# Altium footprint library LaserDiode.PcbLib: 11 footprints
Each footprint in its own frame and in the unit in brackets; x right, y up, seen from the top. Pads: shape width x height; smd on the part's side, far side on the other; paste and mask are expansions set on the pad; w line width, h text height; cw(c..) or ccw(c..) is an arc to the next point about the centre after c.
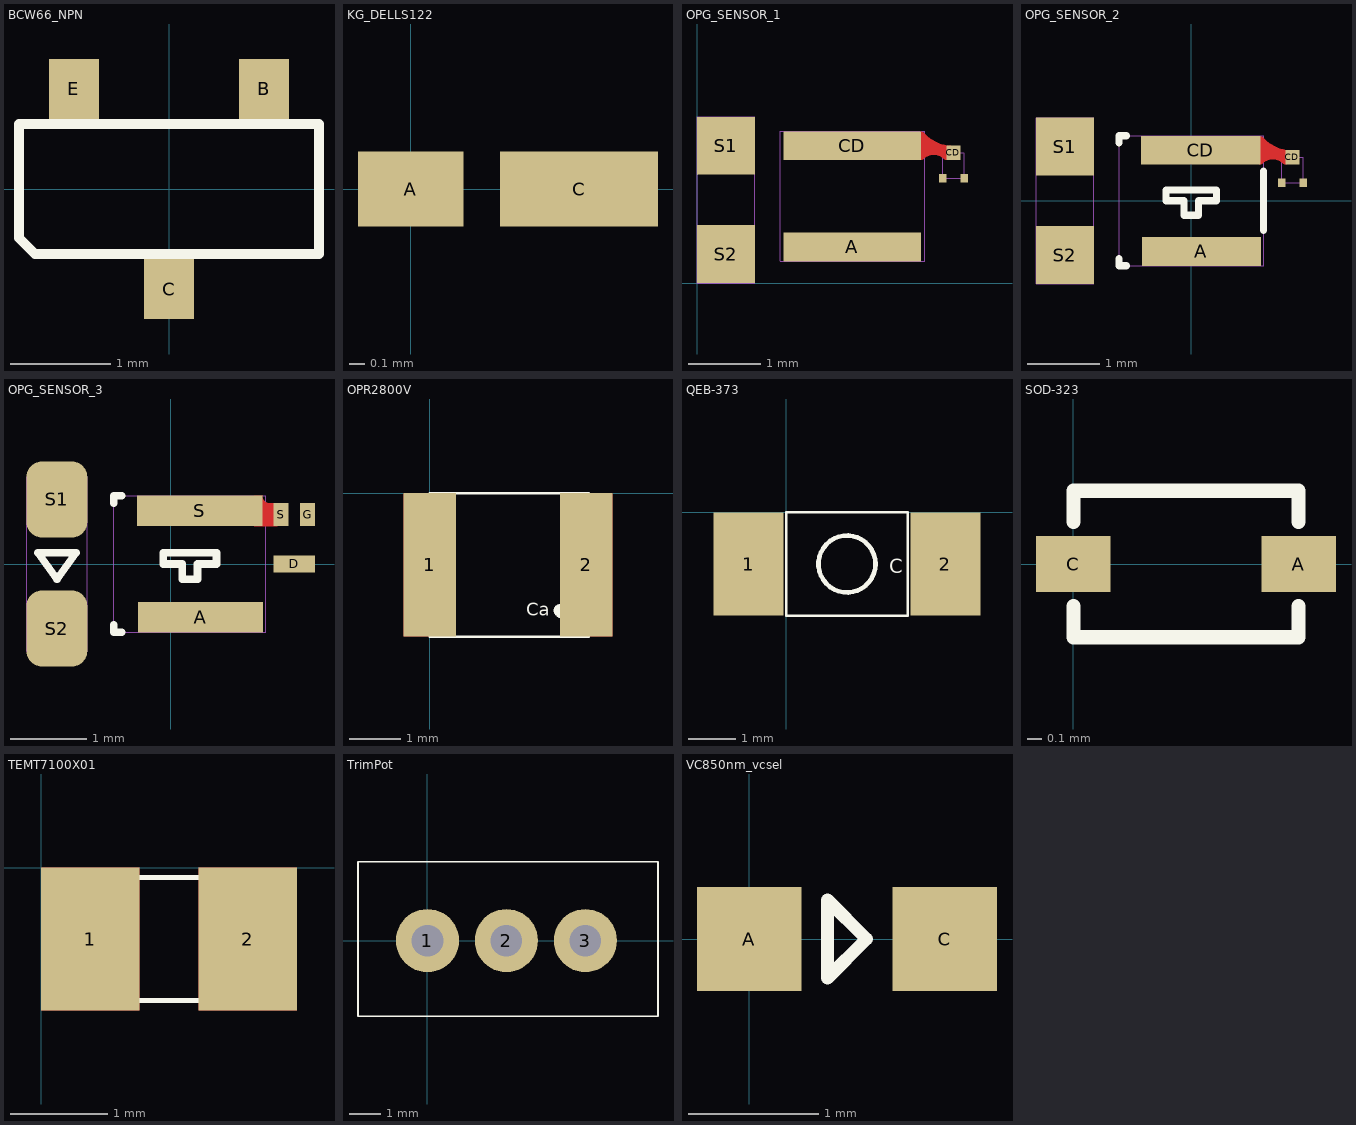
[diagram p0: the footprints below, top view; thin cyan lines are the x and y axes]

## BCW66_NPN [mm] "Nexperia npn bjt transistor, general purpose"
pads (3):
  rect 0.5x0.6 smd: B(0.95,1) C(0,-1) E(-0.95,1)
Top Overlay:
  lines w0.1: -1.5,0.64 -1.5,-0.49 -1.34,-0.65 1.5,-0.65 1.5,0.63 ; -1.5,0.65 1.5,0.65

## KG_DELLS122 [mm] "Osram blue led, 1608 package"
pads (2):
  rect 0.7x0.5 smd: A(0,0)
  rect 1.05x0.5 smd: C(1.12,0)

## OPG_SENSOR_1 [mm] "Custom OPG Sensor v1, with VCSEL, PD and n-MOSFET"
pads (7):
  rect 1.9x0.4 smd: A(2.15,0.5) CD(2.15,1.9)
  rect 0.2x0.2 smd: CD(3.55,1.8)
  rect 0.1x0.12 smd: G(3.4,1.45) S(3.7,1.45)
  rect 0.8x0.8 smd: S1(0.4,1.9) S2(0.4,0.4)
Top Layer:
  region: 3.05,2.05 3.15,2.05 3.35,1.85 3.3,1.8 3.05,1.8
  lines w0.1: 3.1,2.05 ccw(c3.55,2.45) 3.5,1.85 ; 3.105,1.755 cw(c3.275,1.575) 3.45,1.75
Mechanical 1:
  lines w0.01: 0,0 0,2.3 0.8,2.3 0.8,0 0,0 ; 1.15,0.3 3.15,0.3 3.15,2.1 1.15,2.1 1.15,0.3 ; 3.4,1.45 3.7,1.45 3.7,1.8 3.4,1.8 3.4,1.45

## OPG_SENSOR_2 [mm] "Similar footprint as *_1, but with smaller PD pads"
pads (7):
  rect 1.65x0.4 smd: A(0.14,-0.7) CD(0.13,0.7)
  rect 0.2x0.2 smd: CD(1.4,0.6)
  rect 0.1x0.12 smd: G(1.25,0.25) S(1.55,0.25)
  rect 0.8x0.8 smd: S1(-1.75,0.75) S2(-1.75,-0.75)
Top Layer:
  region: 0.9,0.85 1,0.85 1.2,0.65 1.15,0.6 0.9,0.6
  lines w0.1: 0.95,0.85 ccw(c1.4,1.25) 1.35,0.65 ; 0.955,0.555 cw(c1.125,0.375) 1.3,0.55
Top Overlay:
  lines w0.1: -1,-0.8 -1,-0.9 -0.9,-0.9 ; -1,0.8 -1,0.9 -0.9,0.9 ; 1,-0.41 1,0.41 ; -0.35,0 -0.1,0 -0.1,-0.2 0.1,-0.2 0.1,0 0.35,0 0.35,0.15 -0.35,0.15 -0.35,0
Mechanical 1:
  lines w0.01: -2.15,-1.15 -2.15,1.15 -1.35,1.15 -1.35,-1.15 -2.15,-1.15 ; -1,-0.9 1,-0.9 1,0.9 -1,0.9 -1,-0.9 ; 1.25,0.25 1.55,0.25 1.55,0.6 1.25,0.6 1.25,0.25
3D body: height 0.36, standoff 0, extent 1.2,0.2 1.6,0.8
3D body: height 0.6, standoff 0, extent -2.15,-0.6 -1.35,0.6
3D body: height 0.1, standoff 0, extent -2.15,-0.8 -1.35,0.8
3D body "SFH_2704_20190402_geometry.STEP": height 0.6, standoff 0, extent -1,-0.9 1,0.9

## OPG_SENSOR_3 [mm]
pads (7):
  rect 1.65x0.4 smd paste-0.3 mask-0.1: A(0.39,-0.7) S(0.38,0.7)
  rect 0.55x0.22 smd paste-0.05 mask-0.05: D(1.625,0)
  rect 0.2x0.3 smd paste-0.025 mask+0.05: G(1.8,0.65) S(1.45,0.65)
  rrect50% 0.8x1 smd paste-0.1 mask-0.1: S1(-1.5,0.85) S2(-1.5,-0.85)
Top Layer:
  region: 1.4,0.8 1.3,0.8 1.28,0.802 1.244,0.817 1.217,0.844 1.202,0.88 1.2,0.9 1.1,0.9 1.1,0.5 1.4,0.5
Top Overlay:
  lines w0.1: -0.75,-0.8 -0.75,-0.9 -0.65,-0.9 ; -0.75,0.8 -0.75,0.9 -0.65,0.9 ; -1.75,0.15 -1.5,-0.2 -1.25,0.15 -1.75,0.15 ; -0.1,0 -0.1,0.15 0.6,0.15 0.6,0 0.35,0 0.35,-0.2 0.15,-0.2 0.15,0 -0.1,0
Top Paste:
  rectangle: -1.8,-1.25 -1.2,-0.45
  rectangle: -1.8,0.45 -1.2,1.25
  rectangle: 0.5,0.55 1.15,0.85
  rectangle: -0.35,0.55 0.3,0.85
  rectangle: 0.5,-0.85 1.15,-0.55
  rectangle: -0.35,-0.85 0.3,-0.55
Top Solder:
  rectangle: -1.95,0.45 -1.05,1.25
  rectangle: -1.95,-1.25 -1.05,-0.45
  rectangle: 1.4,-0.15 1.85,0.15
  rectangle: -0.35,-0.95 1.15,-0.45
  rectangle: -0.35,0.45 1.15,0.95
Mechanical 1:
  lines w0.01: -1.9,-1.15 -1.1,-1.15 -1.1,1.15 -1.9,1.15 -1.9,-1.15 ; -0.75,-0.9 -0.75,0.9 1.25,0.9 1.25,-0.9 -0.75,-0.9
3D body: height 0.48, standoff 0, extent 1.325,-0.15 1.925,0.85
3D body "SFH_2704_20190402_geometry.STEP": height 0.6, standoff 0, extent -0.75,-0.9 1.25,0.9
3D body: height 0.1, standoff 0, extent -1.9,-0.8 -1.1,0.8
3D body: height 0.6, standoff 0, extent -1.9,-0.6 -1.1,0.6

## OPR2800V [mil] "OPR2800V Laser Diode"
height 56
pads (2):
  rect 40x110 all layers, no hole: 1(0,-55) 2(120,-55)
Top Layer:
  rectangle: 100,-110 140,0
  rectangle: -20,-110 20,0
Top Overlay:
  lines w2: 0,-17.2 ccw(c0,0) 17.2,0 ; 0.17,-92.03 cw(c1.1,-108.94) 18,-110 ; 104,-110 cw(c119.82,-108.62) 121.2,-92.8 ; 104.8,-0.8 ccw(c122,-0.8) 122,-18 ; 0,-110 122,-110 122,0 0,0 0,-110
  lines w10: 100,-90 101,-91
  text "Ca" at 74,-94 h10

## QEB-373 [mm] "QEB-373 IR LED"
height 3
pads (2):
  rect 1.5x2.2 smd: 1(-0.8,-1.1) 2(3.4,-1.1)
Top Overlay:
  circle w0.1: c1.3,-1.1 r0.608
  lines w0.051: 0,-2.2 0,0 2.6,0 2.6,-2.2 0,-2.2
  text "C" at 2.2,-1.3 h0.3

## SOD-323 [mm]
pads (2):
  rect 0.53x0.4 smd: A(1.6,0) C(0,0)
Top Overlay:
  lines w0.1: 0,-0.3 0,-0.52 1.6,-0.52 1.6,-0.3 ; 0,0.3 0,0.52 1.6,0.52 1.6,0.3

## TEMT7100X01 [mil] "TEMT7100X01 Phototransistor"
height 34
pads (2):
  rect 40x58 all layers, no hole: 1(20,-29) 2(84,-29)
Top Layer:
  rectangle: 0,-58 40,0
  rectangle: 64,-58 104,0
Top Overlay:
  lines w2: 12,-42.03 ccw(c13.83,-30) 26,-30 ccw(c12,-30) 12,-16 ; 82,-30 ccw(c93,-31) 92,-42 ; 81.98,-29.73 cw(c92.07,-28.2) 92.01,-18 ; 12,-54 12,-4 92,-4 92,-54 12,-54
  text "C" at 72,-20 h10
  text "E" at 28,-20 h10

## TrimPot [mm] "Trim Potentiometer"
pads (3):
  round 2 hole 1: 1(0,0) 2(2.5,0) 3(5,0)
Top Overlay:
  lines w0.051: -2.2,-2.4 -2.2,0 -2.2,2.5 7.3,2.5 7.3,-2.4 -2.2,-2.4

## VC850nm_vcsel [mm]
pads (2):
  rect 0.8x0.8 smd: A(0,0) C(1.5,0)
Top Overlay:
  lines w0.1: 0.6,-0.3 0.6,0.3 0.9,0 0.6,-0.3